# EAGLE library part EZMATE-6 (library balto)
Molex Pico-EZMate
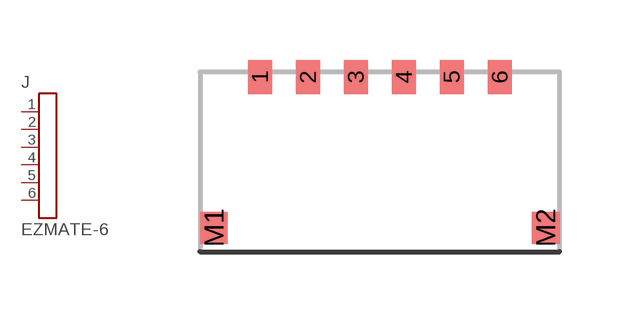
[diagram p74: symbol with the pads of EZMATE-6; footprint EZMATE-6]

Designator prefix J

## EZMATE-6  [EZMATE-6]
1  P$1
2  P$2
3  P$3
4  P$4
5  P$5
6  P$6

## Footprint EZMATE-6 (pad centres in mm)
Molex Pico-EZMate
smd 0.6 x 0.85: 1 -3,3.775; 2 -1.8,3.775; 3 -0.6,3.775; 4 0.6,3.775; 5 1.8,3.775; 6 3,3.775
smd 0.7 x 0.8: M1 -4.15,0; M2 4.15,0